# Altium schematic symbol library EMI FILTER NUF8402MN.Schlib: 1 symbol
Pins are listed as number, name and electrical type; pins without a type are passive.

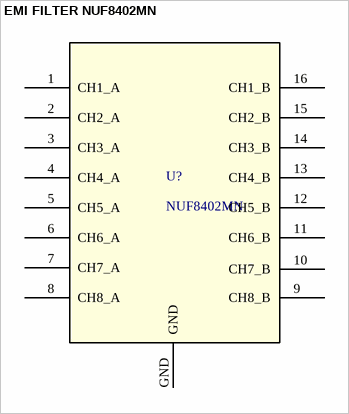
[diagram p0: symbol EMI FILTER NUF8402MN]

## EMI FILTER NUF8402MN
designator U?, comment NUF8402MN
EMI Filter 8ch 105Mhz 100Ohm
pins: 1 CH1_A, 2 CH2_A, 3 CH3_A, 4 CH4_A, 5 CH5_A, 6 CH6_A, 7 CH7_A, 8 CH8_A, 9 CH8_B, 10 CH7_B, 11 CH6_B, 12 CH5_B, 13 CH4_B, 14 CH3_B, 15 CH2_B, 16 CH1_B, GND